# Altium schematic symbol library CR1220-2.Schlib: 1 symbol
Pins are listed as number, name and electrical type; pins without a type are passive.

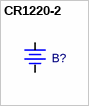
[diagram p0: symbol CR1220-2]

## CR1220-2
designator B?
pins: 1, 2